# Altium footprint library DNESP32S3M.PcbLib: 16 footprints
Each footprint in its own frame and in the unit in brackets; x right, y up, seen from the top. Pads: shape width x height; smd on the part's side, far side on the other; paste and mask are expansions set on the pad; w line width, h text height; cw(c..) or ccw(c..) is an arc to the next point about the centre after c.
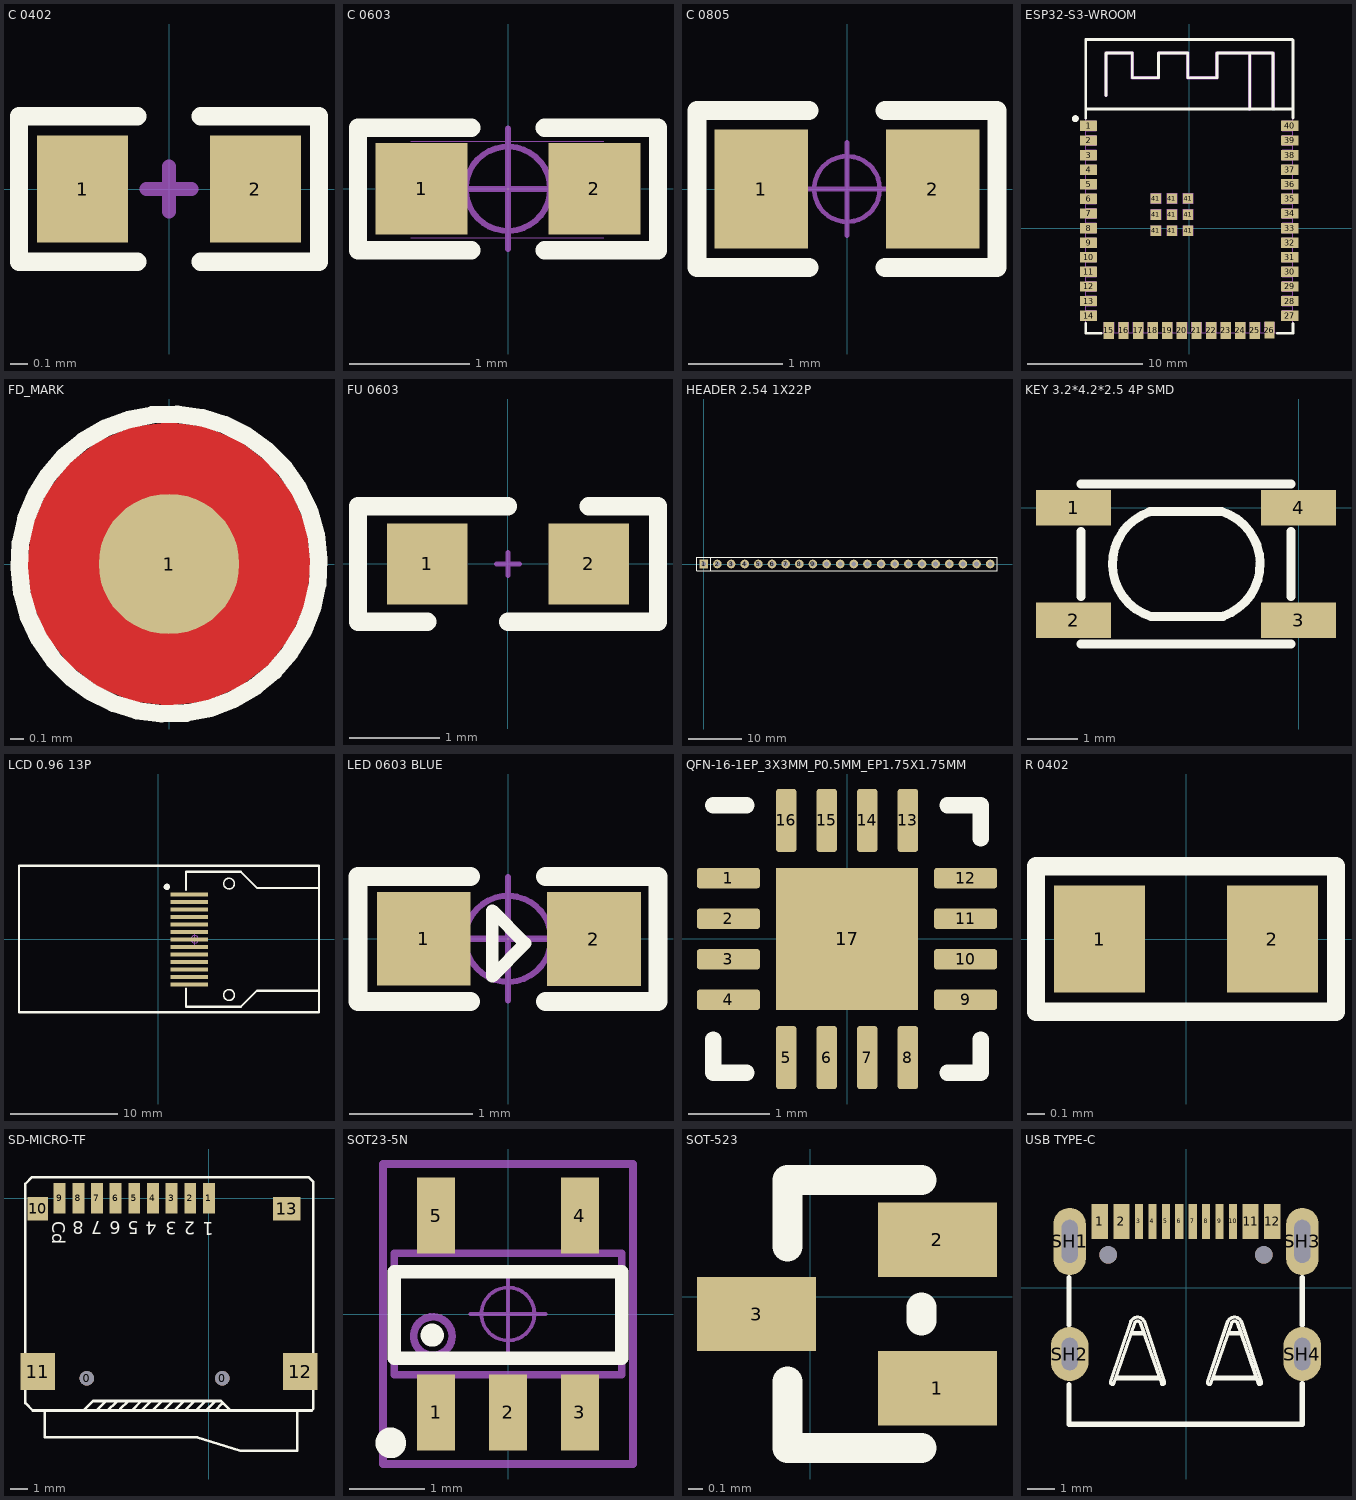
[diagram p0: the footprints below, top view; thin cyan lines are the x and y axes]

## C 0402 [mil]
pads (2):
  rect 20x23.62 smd mask+2: 1(-19,0) 2(19,0)
Top Overlay:
  lines w4: -7,-16 -33,-16 -33,16 -7,16 ; 7,-16 33,-16 33,16 7,16
Mechanical 15:
  lines w3: -5,0 5,0 ; 0,-5 0,5

## C 0603 [mil]
pads (2):
  rect 30x30 smd mask+2: 1(-28.25,0) 2(28.25,0)
Top Overlay:
  lines w6: -12,-20.06 -49,-20.06 -49,19.94 -12,19.94 ; 12,-20.06 49,-20.06 49,19.94 12,19.94
Mechanical 13:
  lines w0.39: -31.75,-16 31.25,-16 ; -31.75,15.5 31.25,15.5
Mechanical 15:
  circle w1.97: c0,0 r13.78
  lines w1.97: -19.68,0 19.68,0 ; 0,-19.68 0,19.68

## C 0805 [mm]
pads (2):
  rect 1x1.27 smd: 1(-0.914,0) 2(0.914,0)
Top Overlay:
  lines w0.203: -0.406,-0.838 -1.6,-0.838 -1.6,0.838 -0.406,0.838 ; 0.406,-0.838 1.6,-0.838 1.6,0.838 0.406,0.838
Mechanical 15:
  circle w0.05: c0,0 r0.35
  lines w0.05: -0.5,0 0.5,0 ; 0,-0.5 0,0.5

## ESP32-S3-WROOM [mm]
pads (49):
  rect 1.5x0.9 smd paste+0 mask+0.05: 1(-8.75,8.895) 2(-8.75,7.625) 3(-8.75,6.355) 4(-8.75,5.085) 5(-8.75,3.815) 6(-8.75,2.545) 7(-8.75,1.275) 8(-8.75,0.005) 9(-8.75,-1.265) 10(-8.75,-2.535) 11(-8.75,-3.805) 12(-8.75,-5.075) 13(-8.75,-6.345) 14(-8.75,-7.615) 27(8.75,-7.615) 28(8.75,-6.345) 29(8.75,-5.075) 30(8.75,-3.805) 31(8.75,-2.535) 32(8.75,-1.265) 33(8.75,0.005) 34(8.75,1.275) 35(8.75,2.545) 36(8.75,3.815) 37(8.75,5.085) 38(8.75,6.355) 39(8.75,7.625) 40(8.75,8.895)
  rect 0.9x1.5 smd paste+0 mask+0.05: 15(-6.985,-8.895) 16(-5.715,-8.895) 17(-4.445,-8.895) 18(-3.175,-8.895) 19(-1.905,-8.895) 20(-0.635,-8.895) 21(0.635,-8.895) 22(1.905,-8.895) 23(3.175,-8.895) 24(4.445,-8.895) 25(5.715,-8.895) 26(6.985,-8.865)
  rect 0.9x0.9 smd paste+0 mask+0.051: 41(-2.9,-0.225) 41(-2.9,1.175) 41(-2.9,2.575) 41(-1.5,-0.225) 41(-1.5,1.175) 41(-1.5,2.575) 41(-0.1,-0.225) 41(-0.1,1.175) 41(-0.1,2.575)
Top Overlay:
  circle w0.3: c-9.906,9.525 r0.15
  lines w0.254: -9,-8.296 -9,-9.144 -7.666,-9.144 ; -9,9.576 -9,16.395 9,16.395 ; -9,10.355 9.017,10.355 ; -7.239,11.557 -7.239,15.24 -4.953,15.24 -4.953,13.081 -2.667,13.081 -2.667,15.24 -0.127,15.24 -0.127,13.081 2.413,13.081 2.413,15.24 5.265,15.24 5.265,10.355 ; 5.062,15.24 7.297,15.24 7.297,10.355 ; 7.666,-9.144 9.017,-9.144 9.017,-8.296 ; 9.017,9.576 9.017,16.383
Mechanical 6:
  drawing of 1 lines, arcs and shapes, not listed
Mechanical 15:
  drawing of 54 lines, arcs and shapes, not listed

## FD_MARK [mil]
pads (1):
  round 40 smd: 1(0,0)
Top Layer:
  pour cut-out: -40.43,0 -39.06,-10.47 -35.02,-20.22 -28.59,-28.59 -20.22,-35.02 -10.47,-39.06 0,-40.43 10.47,-39.06 20.22,-35.02 28.59,-28.59 35.02,-20.22 39.06,-10.47 40.43,0 39.06,10.47 35.02,20.22 28.59,28.59 20.22,35.02 10.47,39.06 0,40.43 -10.47,39.06 -20.22,35.02 -28.59,28.59 -35.02,20.22 -39.06,10.47
Top Overlay:
  lines w5: -40.03,-14.92 cw(c0,0) -39.9,-15.25
Top Solder:
  circle w30: c0,0 r24.49

## FU 0603 [mil]
pads (2):
  rect 35x35 smd: 1(-35,0) 2(35,0)
Top Overlay:
  lines w8: -35,-25 -65,-25 -65,25 -40,25 0,25 ; 0,-25 40,-25 65,-25 65,25 35,25
Mechanical 15:
  lines w2: -5,0 5,0 ; 0,-5 0,0 0,5

## HEADER 2.54 1X22P [mm]
pads (22):
  rect 1.6x1.6 hole 0.9: 1(0,0)
  round 1.6 hole 0.9: 2(2.54,0) 3(5.08,0) 4(7.62,0) 5(10.16,0) 6(12.7,0) 7(15.24,0) 8(17.78,0) 9(20.32,0) 10(22.86,0) 11(25.4,0) 12(27.94,0) 13(30.48,0) 14(33.02,0) 15(35.56,0) 16(38.1,0) 17(40.64,0) 18(43.18,0) 19(45.72,0) 20(48.26,0) 21(50.8,0) 22(53.34,0)
Top Overlay:
  lines w0.2: 1.25,-1.25 1.25,1.25 ; -1.27,-1.27 54.61,-1.27 54.61,1.27 0.635,1.27 -1.27,1.27 -1.27,-1.27

## KEY 3.2*4.2*2.5 4P SMD [mm]
pads (4):
  rect 1.5x0.7 smd: 1(-4.5,0) 2(-4.5,-2.25) 3(0,-2.25) 4(0,0)
Top Overlay:
  lines w0.178: -4.35,-2.725 -0.15,-2.725 ; -4.35,-1.775 -4.35,-0.475 ; -4.35,0.475 -0.15,0.475 ; -2.988,-0.088 ccw(c-2.622,-1.125) -2.95,-2.175 -1.513,-2.175 ; -2.975,-0.075 -1.538,-0.075 cw(c-1.866,-1.125) -1.5,-2.162 ; -0.15,-1.775 -0.15,-0.475

## LCD 0.96 13P [mm]
pads (13):
  rect 3.5x0.38 smd: 1(2.9,4.2) 2(2.9,3.5) 3(2.9,2.8) 4(2.9,2.1) 5(2.9,1.4) 6(2.9,0.7) 7(2.9,0) 8(2.9,-0.7) 9(2.9,-1.4) 10(2.9,-2.1) 11(2.9,-2.8) 12(2.9,-3.5) 13(2.9,-4.2)
Top Overlay:
  circle w0.152: c6.6,-5.2 r0.5
  circle w0.152: c6.6,5.2 r0.5
  circle w0.3: c0.8,4.9 r0.15
  lines w0.203: 2.6,-4.6 2.6,-6.3 7.7,-6.3 9.2,-4.8 15,-4.8 ; 2.6,4.6 2.6,6.3 7.7,6.3 9.2,4.8 15,4.8 ; -13,-6.8 -13,6.858 15,6.858 15,-6.8 -13,-6.8
Mechanical 15:
  circle w0.05: c3.4,0 r0.35
  lines w0.05: 2.9,0 3.9,0 ; 3.4,-0.5 3.4,0.5

## LED 0603 BLUE [mil]
pads (2):
  rect 30x30 smd: 1(-27,0) 2(27.5,-0.06)
Top Overlay:
  lines w4: -5,-12 5.5,-1.5 -5,9 -5,-12
  lines w6: -12,-20.06 -48,-20.06 -48,19.94 -12,19.94 ; 12,-20.06 48,-20.06 48,19.94 12,19.94
Mechanical 15:
  circle w1.97: c0,0 r13.78
  lines w1.97: -19.68,0 19.68,0 ; 0,-19.68 0,19.68

## QFN-16-1EP_3X3MM_P0.5MM_EP1.75X1.75MM [mm]
pads (17):
  rrect25% 0.775x0.25 smd: 1(-1.462,0.75) 2(-1.462,0.25) 3(-1.462,-0.25) 4(-1.462,-0.75) 9(1.462,-0.75) 10(1.462,-0.25) 11(1.462,0.25) 12(1.462,0.75)
  rrect25% 0.25x0.775 smd: 5(-0.75,-1.462) 6(-0.25,-1.462) 7(0.25,-1.462) 8(0.75,-1.462) 13(0.75,1.462) 14(0.25,1.462) 15(-0.25,1.462) 16(-0.75,1.462)
  rect 1.75x1.75 smd: 17(0,0)
Top Overlay:
  lines w0.2: -1.65,-1.238 -1.65,-1.65 -1.238,-1.65 ; -1.65,1.65 -1.238,1.65 ; 1.238,-1.65 1.65,-1.65 1.65,-1.238 ; 1.238,1.65 1.65,1.65 1.65,1.238
Mechanical 15:
  lines w0.1: -0.5,0 0.5,0 ; 0,-0.5 0,0.5

## R 0402 [mil]
pads (2):
  rect 20x23.62 smd mask+2: 1(-19,0) 2(19,0)
Top Overlay:
  lines w4: 7,-16 33,-16 33,16 7,16 ; 8,16 -33,16 -33,-16 9,-16

## SD-MICRO-TF [mm]
pads (15):
  round 0.85 hole 0.85 unplated: 0(-7.2,-10.627) 0(0.8,-10.627)
  rect 0.7x1.8 smd: 1(0,0) 2(-1.1,0) 3(-2.2,0) 4(-3.3,0) 5(-4.4,0) 6(-5.5,0) 7(-6.6,0) 8(-7.7,0) 9(-8.8,0)
  rect 1.2x1.4 smd: 10(-10.1,-0.627)
  rect 2.032x2.2 smd: 11(-10.1,-10.227) 12(5.4,-10.227)
  rect 1.6x1.4 smd: 13(4.6,-0.627)
Top Overlay:
  lines w0.152: -9.677,-12.522 -9.677,-14.097 -0.686,-14.097 ; -6.629,-12.522 -6.096,-11.989 -6.096,-11.963 ; -5.969,-12.522 -5.461,-12.014 -5.461,-11.963 ; -5.232,-12.522 -5.232,-12.446 -4.75,-11.963 ; -4.547,-12.522 -3.988,-11.963 -3.962,-11.963 ; -3.962,-12.522 -3.429,-11.989 -3.429,-11.963 ; -3.327,-12.522 -2.769,-11.963 -2.667,-11.963 ; -2.667,-12.522 -2.108,-11.963 -2.083,-11.963 ; -2.032,-12.522 -1.499,-11.989 -1.499,-11.963 ; -1.397,-12.522 -0.838,-11.963 -0.711,-11.963 ; -0.762,-12.522 -0.203,-11.963 -0.178,-11.963 ; -0.711,-14.097 1.854,-14.91 5.207,-14.91 5.207,-12.548 ; -0.178,-12.522 0.381,-11.963 ; 0.381,-12.522 0.787,-12.116 0.864,-12.116 ; -10.389,-12.522 -10.82,-12.09 -10.82,0.855 -10.425,1.25 5.875,1.25 6.172,0.953 6.172,-12.421 6.071,-12.522 ; -10.389,-12.522 6.071,-12.522 ; -10.389,-12.522 -7.391,-12.522 -6.833,-11.963 0.711,-11.963 1.27,-12.522 6.071,-12.522
  text "1" at 0.279,-1.422 h0.76
  text "2" at -0.813,-1.397 h0.76
  text "3" at -1.88,-1.397 h0.76
  text "4" at -3.073,-1.397 h0.76
  text "5" at -4.14,-1.372 h0.76
  text "6" at -5.207,-1.372 h0.76
  text "7" at -6.274,-1.372 h0.76
  text "8" at -7.391,-1.346 h0.76
  text "Cd" at -9.233,-1.356 h0.76

## SOT23-5N [mm]
pads (5):
  rect 0.5x1 smd: 1(-0.95,-1.3) 2(0,-1.3) 3(0.95,-1.3) 4(0.95,1.3) 5(-0.95,1.3)
Top Overlay:
  circle w0.254: c-1.549,-1.702 r0.076
  circle w0.254: c-1.001,-0.279 r0.025
  lines w0.178: -1.5,-0.584 -1.5,0.559 1.5,0.559 1.5,-0.584 -1.5,-0.584
Mechanical 13:
  circle w0.1: c-0.992,-0.292 r0.254
  lines w0.1: -1.5,-0.8 -1.5,0.8 1.5,0.8 1.5,-0.8 -1.5,-0.8
Mechanical 15:
  circle w0.05: c0,0 r0.35
  lines w0.05: -0.5,0 0.5,0 ; 0,-0.5 0,0.5
  lines w0.1: -1.651,-1.981 1.651,-1.981 1.651,1.981 -1.651,1.981 -1.651,-1.981

## SOT-523 [mm]
pads (3):
  rect 0.8x0.5 smd: 1(0.854,-0.616) 2(0.854,0.384) 3(-0.362,-0.116)
Top Overlay:
  lines w0.2: -0.154,-0.57 -0.154,-1.016 0.746,-1.016 ; -0.154,0.338 -0.154,0.784 0.646,0.784 ; 0.746,-0.162 0.746,-0.07 ; 0.746,-0.135 0.746,-0.097 ; 0.646,0.784 0.746,0.784 0.646,0.784

## USB TYPE-C [mm]
pads (18):
  rect 0.6x1.3 smd mask+0.064: 1(-3.2,2.462) 2(-2.4,2.462) 11(2.4,2.462) 12(3.2,2.462)
  rect 0.3x1.3 smd mask+0.064: 3(-1.75,2.462) 4(-1.25,2.462) 5(-0.75,2.462) 6(-0.25,2.462) 7(0.25,2.462) 8(0.75,2.462) 9(1.25,2.462) 10(1.75,2.462)
  oval 1.2x2.5 hole 0.6 slot 1.6 at 90 deg: SH1(-4.32,1.718) SH3(4.32,1.717)
  oval 1.4x2 hole 0.6 slot 1.2 at 90 deg: SH2(-4.32,-2.462) SH4(4.32,-2.462)
  round 0.65 hole 0.65 unplated mask+0: ""(-2.89,1.218) ""(2.89,1.218)
Top Overlay:
  lines w0.12: -2.623,-3.39 -0.973,-3.39 ; -2.598,-3.315 -0.998,-3.315 ; -2.048,-1.715 -1.548,-1.715 ; -2.023,-1.665 -1.573,-1.665 ; 0.977,-3.39 2.627,-3.39 ; 1.002,-3.315 2.602,-3.315 ; 1.552,-1.715 2.052,-1.715 ; 1.577,-1.665 2.027,-1.665 ; -1.713,-1.275 ccw(c-1.798,-1.361) -1.798,-1.24 ccw(c-1.798,-1.361) -1.883,-1.275 -1.898,-1.29 -2.698,-3.59 cw(c-2.723,-3.515) -2.798,-3.49 -2.048,-1.24 -1.969,-1.161 cw(c-1.798,-1.331) -1.798,-1.09 cw(c-1.798,-1.331) -1.627,-1.161 -1.548,-1.24 -0.798,-3.49 cw(c-0.873,-3.515) -0.898,-3.59 -1.698,-1.29 ; -1.713,-1.275 -1.698,-1.29 ; -1.713,-1.275 -1.698,-1.29 ; 1.702,-1.29 1.717,-1.275 ; 1.702,-1.29 0.902,-3.59 cw(c0.877,-3.515) 0.802,-3.49 1.552,-1.24 1.631,-1.161 cw(c1.802,-1.331) 1.802,-1.09 cw(c1.802,-1.331) 1.973,-1.161 2.052,-1.24 2.802,-3.49 cw(c2.727,-3.515) 2.702,-3.59 1.902,-1.29 1.887,-1.275 ccw(c1.802,-1.361) 1.802,-1.24 ccw(c1.802,-1.361) 1.717,-1.275 ; 1.702,-1.29 1.717,-1.275
  lines w0.2: -4.343,-3.593 -4.343,-5.066 4.32,-5.066 4.32,-3.562 ; -4.343,-1.385 -4.343,0.37 ; 4.32,-1.382 4.32,0.373